# EAGLE library part STM32F410R3 (library smr32f410rbt6)
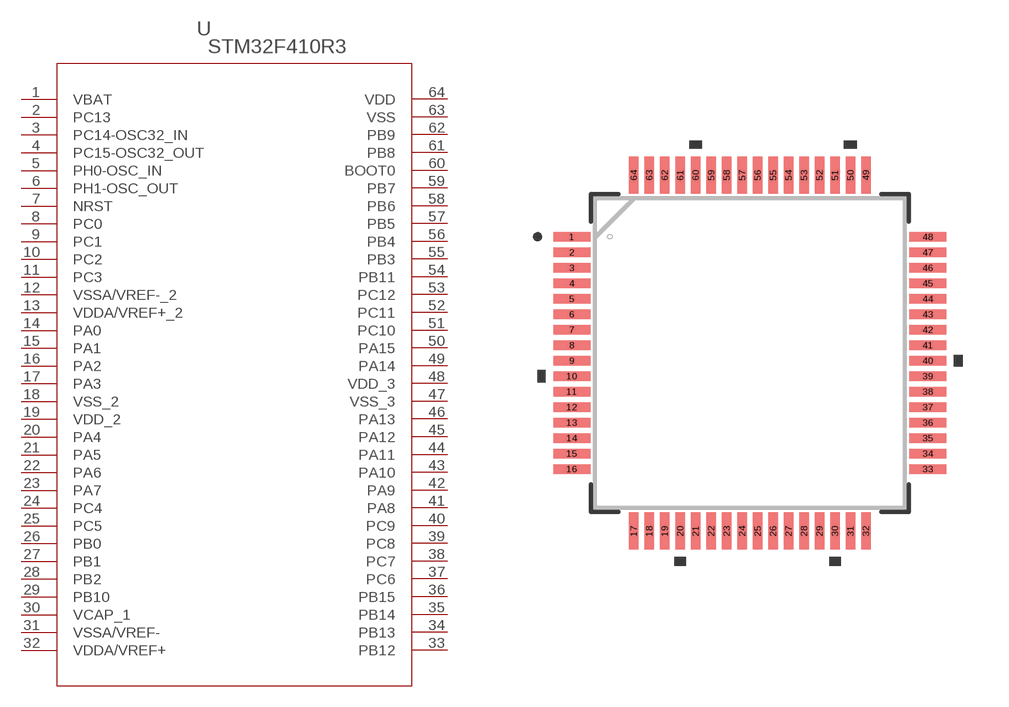
[diagram p0: symbol with the pads of LQFP64-10X10MM; footprint LQFP64-10X10MM]

Designator prefix U

## STM32F410R3 (MANUFACTURER_PART_NUMBER: STM32F410R3; VENDOR: STMicroelectronics)  [LQFP64-10X10MM]
1  VBAT  pwr
2  PC13  pas
3  PC14-OSC32_IN  pas
4  PC15-OSC32_OUT  pas
5  PH0-OSC_IN  pas
6  PH1-OSC_OUT  pas
7  NRST  pas
8  PC0  pas
9  PC1  pas
10  PC2  pas
11  PC3  pas
12  VSSA/VREF-_2  pwr
13  VDDA/VREF+_2  pwr
14  PA0  pas
15  PA1  pas
16  PA2  pas
17  PA3  pas
18  VSS_2  pwr
19  VDD_2  pwr
20  PA4  pas
21  PA5  pas
22  PA6  pas
23  PA7  pas
24  PC4  pas
25  PC5  pas
26  PB0  pas
27  PB1  pas
28  PB2  pas
29  PB10  pas
30  VCAP_1  pwr
31  VSSA/VREF-  pwr
32  VDDA/VREF+  pwr
33  PB12  pas
34  PB13  pas
35  PB14  pas
36  PB15  pas
37  PC6  pas
38  PC7  pas
39  PC8  pas
40  PC9  pas
41  PA8  pas
42  PA9  pas
43  PA10  pas
44  PA11  pas
45  PA12  pas
46  PA13  pas
47  VSS_3  pwr
48  VDD_3  pwr
49  PA14  pas
50  PA15  pas
51  PC10  pas
52  PC11  pas
53  PC12  pas
54  PB11  pas
55  PB3  pas
56  PB4  pas
57  PB5  pas
58  PB6  pas
59  PB7  pas
60  BOOT0  in
61  PB8  pas
62  PB9  pas
63  VSS  pwr
64  VDD  pwr

## Footprint LQFP64-10X10MM (pad centres in mm)
smd 1.194 x 0.305: 1 -5.75,3.75; 2 -5.75,3.25; 3 -5.75,2.75; 4 -5.75,2.25; 5 -5.75,1.75; 6 -5.75,1.25; 7 -5.75,0.75; 8 -5.75,0.25; 9 -5.75,-0.25; 10 -5.75,-0.75; 11 -5.75,-1.25; 12 -5.75,-1.75; 13 -5.75,-2.25; 14 -5.75,-2.75; 15 -5.75,-3.25; 16 -5.75,-3.75; 33 5.75,-3.75; 34 5.75,-3.25; 35 5.75,-2.75; 36 5.75,-2.25; 37 5.75,-1.75; 38 5.75,-1.25; 39 5.75,-0.75; 40 5.75,-0.25; 41 5.75,0.25; 42 5.75,0.75; 43 5.75,1.25; 44 5.75,1.75; 45 5.75,2.25; 46 5.75,2.75; 47 5.75,3.25; 48 5.75,3.75
smd 0.305 x 1.194: 17 -3.75,-5.75; 18 -3.25,-5.75; 19 -2.75,-5.75; 20 -2.25,-5.75; 21 -1.75,-5.75; 22 -1.25,-5.75; 23 -0.75,-5.75; 24 -0.25,-5.75; 25 0.25,-5.75; 26 0.75,-5.75; 27 1.25,-5.75; 28 1.75,-5.75; 29 2.25,-5.75; 30 2.75,-5.75; 31 3.25,-5.75; 32 3.75,-5.75; 49 3.75,5.75; 50 3.25,5.75; 51 2.75,5.75; 52 2.25,5.75; 53 1.75,5.75; 54 1.25,5.75; 55 0.75,5.75; 56 0.25,5.75; 57 -0.25,5.75; 58 -0.75,5.75; 59 -1.25,5.75; 60 -1.75,5.75; 61 -2.25,5.75; 62 -2.75,5.75; 63 -3.25,5.75; 64 -3.75,5.75